# Altium schematic symbol library PRIMERPROYECTO.SchLib: 3 symbols
Pins are listed as number, name and electrical type; pins without a type are passive.

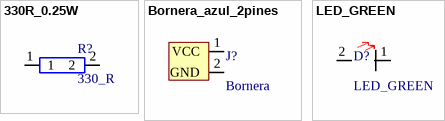
[diagram p0: symbols 330R_0.25W to LED_GREEN]

## 330R_0.25W
designator R?, comment 330_R
footprint 330R_0.25W
pins: 1, 2

## Bornera_azul_2pines
designator J?, comment Bornera
footprint Bornera_azul_2pines
pins: 1 VCC, 2 GND

## LED_GREEN
designator D?
footprint LED_GREEN
pins: 1 C, 2 A